# Altium footprint library 9702-1.PcbLib: 1 footprints
Each footprint in its own frame and in the unit in brackets; x right, y up, seen from the top. Pads: shape width x height; smd on the part's side, far side on the other; paste and mask are expansions set on the pad; w line width, h text height; cw(c..) or ccw(c..) is an arc to the next point about the centre after c.

## 9207-1 [mm] "Computer Bracket - DB9"
via -11.506,0 diameter 3.81 hole 2.946
via -16.307,-90.805 diameter 3.81 hole 2.946
3D body: height 19.56, standoff -2.11, extent -18.821,-121.735 12.189,4.166